# Altium schematic symbol library SCH - ARM CORTEX - STM STM8S001J3Mx.SchLib: 1 symbol
Pins are listed as number, name and electrical type; pins without a type are passive.

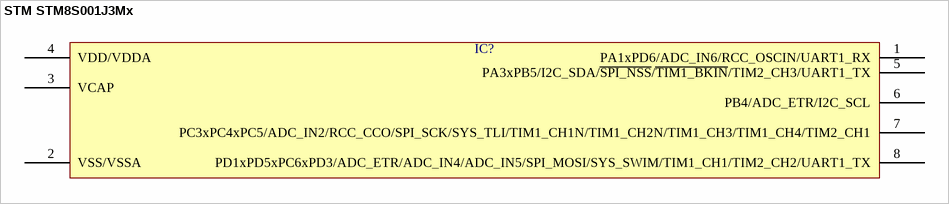
[diagram p0: symbol STM STM8S001J3Mx]

## STM STM8S001J3Mx
designator IC?  (value not drawn)
pins: 1 PA1xPD6/ADC_IN6/RCC_OSCIN/UART1_RX, 2 VSS/VSSA, 3 VCAP, 4 VDD/VDDA, 5 PA3xPB5/I2C_SDA/~{SPI_NSS}/~{TIM1_BKIN}/TIM2_CH3/UART1_TX, 6 PB4/ADC_ETR/I2C_SCL, 7 PC3xPC4xPC5/ADC_IN2/RCC_CCO/SPI_SCK/SYS_TLI/TIM1_CH1N/TIM1_CH2N/TIM1_CH3/TIM1_CH4/TIM2_CH1, 8 PD1xPD5xPC6xPD3/ADC_ETR/ADC_IN4/ADC_IN5/SPI_MOSI/SYS_SWIM/TIM1_CH1/TIM2_CH2/UART1_TX